# Altium schematic symbol library Molex Pico SPOX 5 POS.SchLib: 1 symbol
Pins are listed as number, name and electrical type; pins without a type are passive.

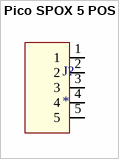
[diagram p0: symbol Pico SPOX 5 POS]

## Pico SPOX 5 POS
designator J?
footprint Molex Pico SPOX 5 POS
pins: 1, 2, 3, 4, 5